# Altium footprint library JUMPER2_54-3.PcbLib: 1 footprints
Each footprint in its own frame and in the unit in brackets; x right, y up, seen from the top. Pads: shape width x height; smd on the part's side, far side on the other; paste and mask are expansions set on the pad; w line width, h text height; cw(c..) or ccw(c..) is an arc to the next point about the centre after c.
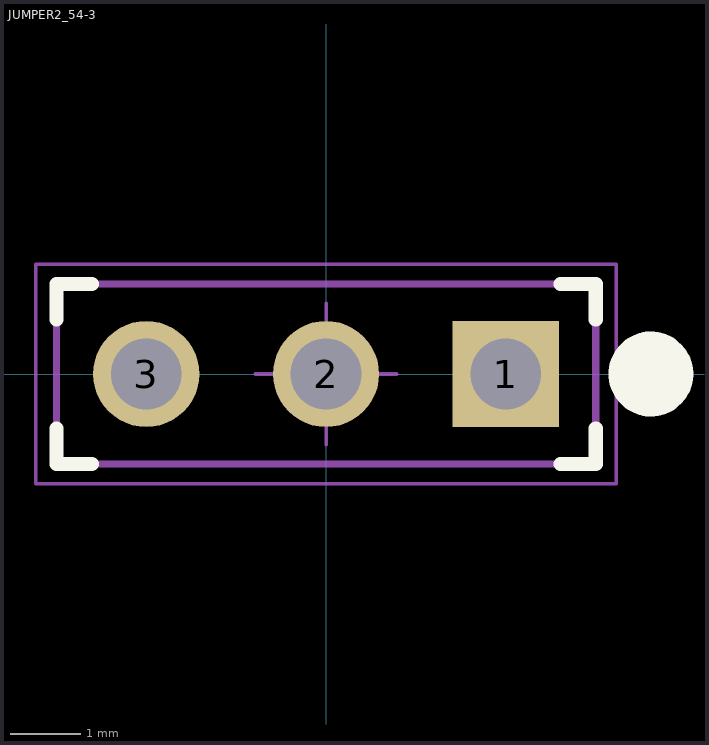
[diagram p0: the footprint, top view; thin cyan lines are the x and y axes]

## JUMPER2_54-3 [mm]
height 8
pads (3):
  rect 1.5x1.5 hole 1: 1(2.54,0)
  round 1.5 hole 1: 2(0,0) 3(-2.54,0)
Top Overlay:
  circle w0.6: c4.59,0 r0.3
  lines w0.2: -3.81,-0.77 -3.81,-1.27 -3.31,-1.27 ; -3.81,0.77 -3.81,1.27 -3.31,1.27 ; 3.31,-1.27 3.81,-1.27 3.81,-0.77 ; 3.31,1.27 3.81,1.27 3.81,0.77
Top Assembly:
  circle w0.5: c-2.54,0 r0.25
  circle w0.5: c0,0 r0.25
  circle w0.5: c2.54,0 r0.25
  lines w0.1: -3.81,-1.27 3.81,-1.27 3.81,1.27 -3.81,1.27 -3.81,-1.27
  text "3" at -5.12,-0.75 h1.52
  text "1" at 4.17,-0.75 h1.52
Top Courtyard:
  lines w0.05: -4.1,-1.55 4.1,-1.55 4.1,1.55 -4.1,1.55 -4.1,-1.55
Top Designator:
  text ".Designator" at 1.27,-2.45 h1
Top Component Center:
  lines w0.05: -1,0 1,0 ; 0,-1 0,1
3D body "pin_header_aw140-eg-g03d.stp": height 8.2, standoff -3, extent -3.71,-1.246 3.91,1.253